# EAGLE library part ISP_PROG_STECKER (library LW_DUB)
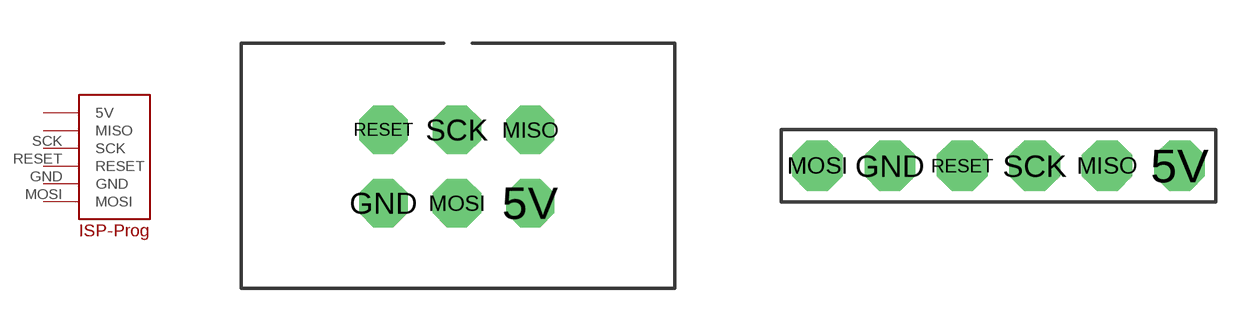
[diagram p13: symbol with the pads of ISP_PROG_WANNENSTECKER; footprints ISP_PROG_WANNENSTECKER, ISP_PROG_REIHE_DIP]

Designator prefix -

## ISP_PROG_STECKERISP_PROG_WANNENSTECKER  [ISP_PROG_WANNENSTECKER]
5V  5V
GND  GND
MISO  MISO
MOSI  MOSI
RESET  RESET
SCK  SCK

## ISP_PROG_STECKERISP_PROG_REIHE_DIP  [ISP_PROG_REIHE_DIP]
Pads as for ISP_PROG_WANNENSTECKER

## ISP_PROG_STECKERISP_PROG_REIHE_SMD  [ISP_PROG_REIHE_SMD]
+5V  5V
GND  GND
MISO  MISO
MOSI  MOSI
RESET  RESET
SCK  SCK

## ISP_PROG_STECKERISP_PROG_REIHE_PRESS_SMD  [ISP_PROG_REIHE_PRESS_SMD]
Pads as for ISP_PROG_WANNENSTECKER

## ISP_PROG_STECKER  [ISP_PROG_SMALL_SMD]
Pads as for ISP_PROG_WANNENSTECKER

## ISP_PROG_STECKERJST-PH6  [ISP_PROG_JST_PH6]
1  5V
2  MISO
3  SCK
4  RESET
5  GND
6  MOSI

## Footprint ISP_PROG_WANNENSTECKER (pad centres in mm)
drill 1 pad 1.676 octagon: 5V 2.54,-1.27; GND -2.54,-1.27; MISO 2.54,1.27; MOSI 0,-1.27; RESET -2.54,1.27; SCK 0,1.27

## Footprint ISP_PROG_REIHE_DIP (pad centres in mm)
drill 1 pad 1.778 octagon: 5V 5.08,0; GND -5.08,0; MISO 2.54,0; MOSI -7.62,0; RESET -2.54,0; SCK 0,0

## Footprint ISP_PROG_REIHE_SMD (pad centres in mm)
smd 2.54 x 1.5: +5V -2.54,-6.35; GND -2.54,3.81; MISO 2.54,-3.81; MOSI 2.54,6.35; RESET 2.54,1.27; SCK -2.54,-1.27

## Footprint ISP_PROG_REIHE_PRESS_SMD (pad centres in mm)
smd 1.93 x 3.81: 5V 5.08,0; GND -5.08,0; MISO 2.54,0; MOSI -7.62,0; RESET -2.54,0; SCK 0,0
hole 0.9 at 10.16,0
hole 0.9 at 7.62,0
hole 0.9 at -10.16,0

## Footprint ISP_PROG_SMALL_SMD (pad centres in mm)
smd 0.813 x 1.676: 5V -0.5,0; GND -5.5,0; MISO -1.75,0; MOSI -6.75,0; RESET -4.25,0; SCK -3,0

## Footprint ISP_PROG_JST_PH6 (pad centres in mm)
drill 0.813 pad 1.676 octagon: 1 5,0; 2 3,0; 3 1,0; 4 -1,0; 5 -3,0; 6 -5,0